# EAGLE library part LT8616 (library AR_IC)
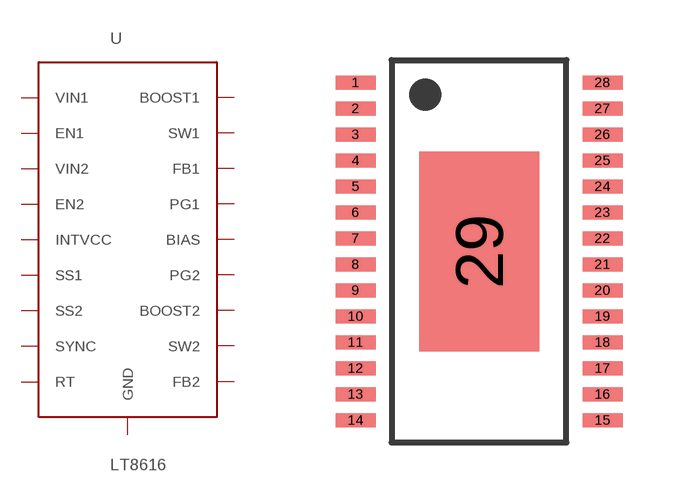
[diagram p3: symbol with the pads of 28-TSSOP; footprint 28-TSSOP]

Designator prefix -

## LT8616  [28-TSSOP]
1  EN2
2  PG2
3  SW2
4  SW2
5  SW2
6  BOOST2
8  BOOST1
9  SW1
10  SW1
11  PG1
12  SS1
13  FB1
14  FB1
15  RT
16  EN1
17  SYNC
19  VIN1
21  INTVCC
22  BIAS
24  VIN2
26  FB2
27  FB2
28  SS2
29  GND

## Footprint 28-TSSOP (pad centres in mm)
smd 1 x 0.35: 1 -2.837,4.225; 2 -2.837,3.575; 3 -2.837,2.925; 4 -2.837,2.275; 5 -2.837,1.625; 6 -2.837,0.975; 7 -2.837,0.325; 8 -2.837,-0.325; 9 -2.837,-0.975; 10 -2.837,-1.625; 11 -2.837,-2.275; 12 -2.837,-2.925; 13 -2.837,-3.575; 14 -2.837,-4.225; 15 3.337,-4.225; 16 3.337,-3.575; 17 3.337,-2.925; 18 3.337,-2.275; 19 3.337,-1.625; 20 3.337,-0.975; 21 3.337,-0.325; 22 3.337,0.325; 23 3.337,0.975; 24 3.337,1.625; 25 3.337,2.275; 26 3.337,2.925; 27 3.337,3.575; 28 3.337,4.225
smd 3 x 5: 29 0.25,0